# Altium footprint library PcbLib.PcbLib: 27 footprints (part 1 of 2)
Each footprint in its own frame and in the unit in brackets; x right, y up, seen from the top. Pads: shape width x height; smd on the part's side, far side on the other; paste and mask are expansions set on the pad; w line width, h text height; cw(c..) or ccw(c..) is an arc to the next point about the centre after c.
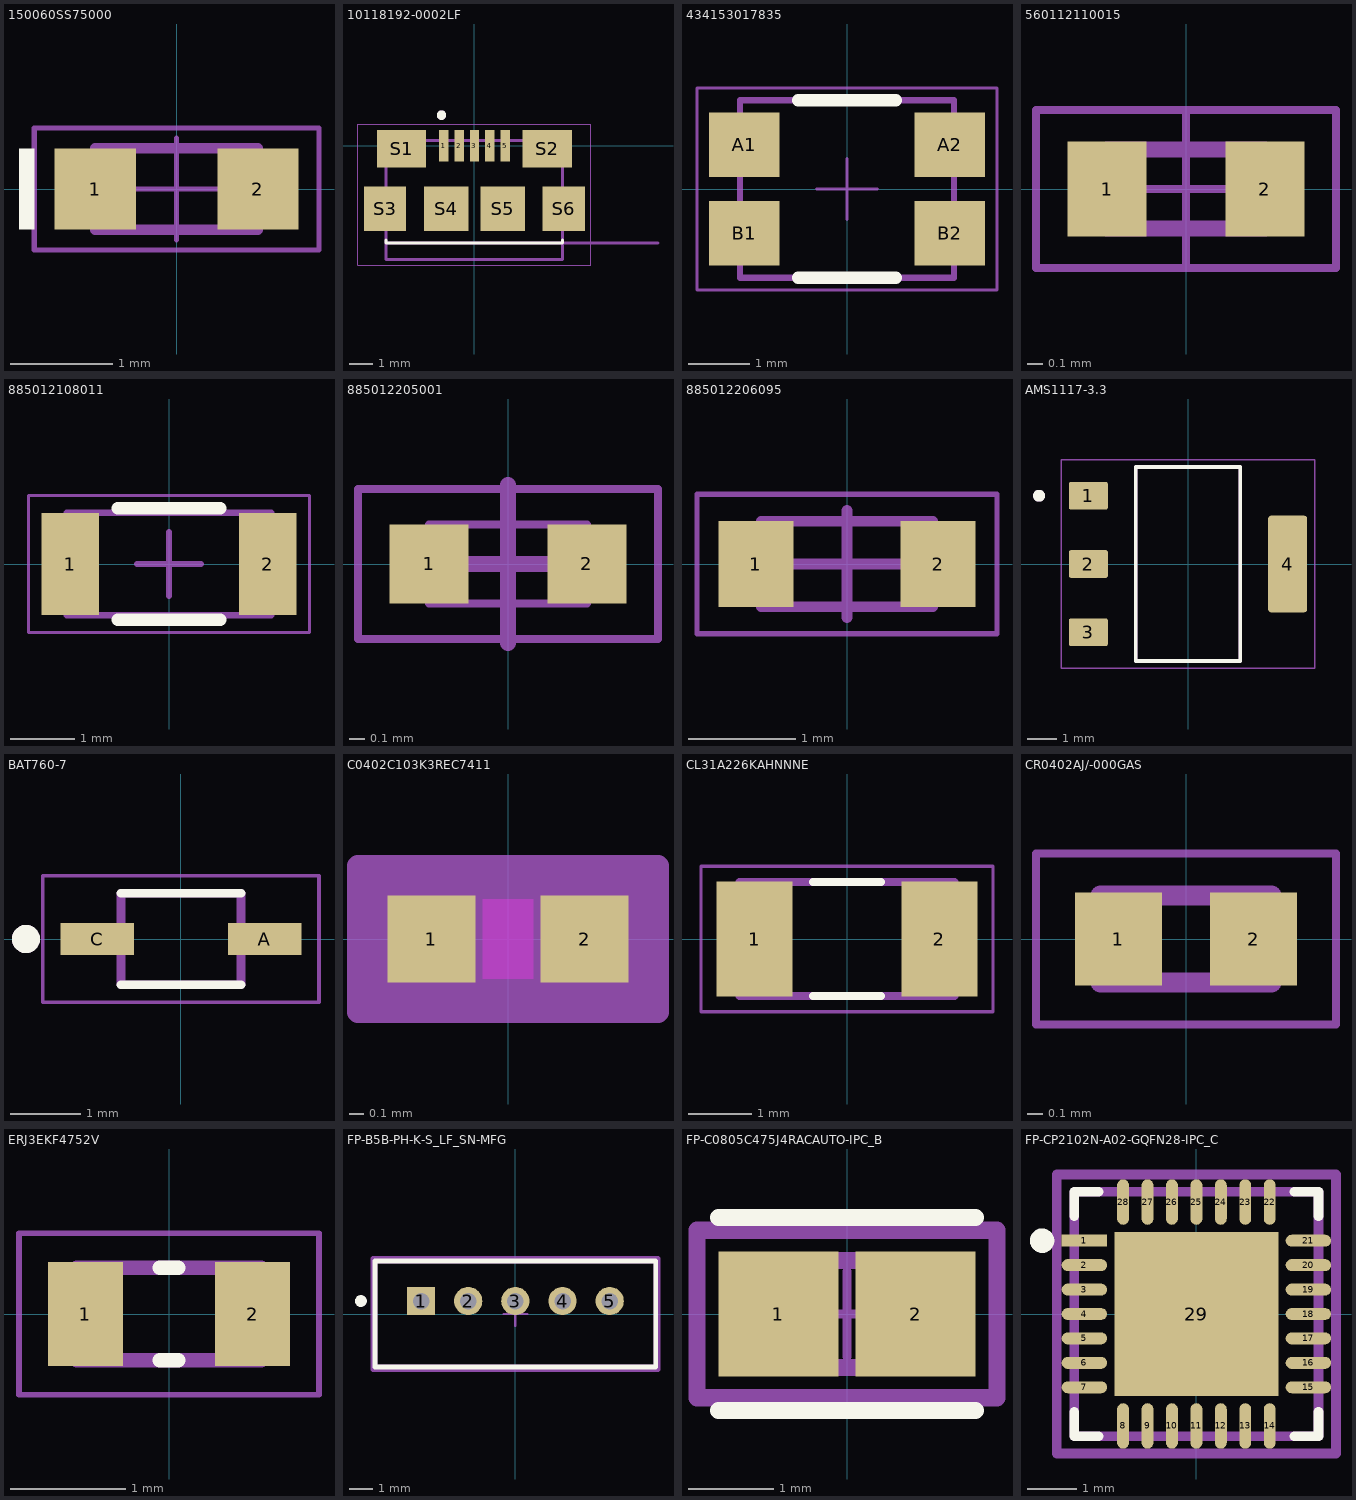
[diagram p0: the footprints below, top view; thin cyan lines are the x and y axes]

## 150060SS75000 [mm] "SMD Mono-color Chip LED, body 1.6x0.8mm"
height 0.7
pads (2):
  rect 0.8x0.8 smd: 1(-0.8,0) 2(0.8,0)
Top Overlay:
  rectangle: -1.55,-0.4 -1.4,0.4
Top Component Outline:
  rectangle: -0.8,-0.4 -0.5,0.4
  lines w0.1: -0.8,-0.4 0.8,-0.4 0.8,0.4 -0.8,0.4 -0.8,-0.4
Top Courtyard:
  lines w0.05: -1.4,-0.6 1.4,-0.6 1.4,0.6 -1.4,0.6 -1.4,-0.6
Top Component Center:
  lines w0.05: -0.5,0 0.5,0 ; 0,-0.5 0,0.5
Top Designator:
  text ".Designator" at -2.499,-0.167 h0.5
3D body "150060xxx.stp": height 0.7, standoff 0, extent -0.8,-0.4 0.8,0.4

## 10118192-0002LF [mm]
height 2.8
pads (11):
  rect 0.4x1.35 smd: 1(-1.3,0) 2(-0.65,0) 3(0,0) 4(0.65,0) 5(1.3,0)
  rect 2.1x1.6 smd: S1(-3.1,-0.125) S2(3.1,-0.125)
  rect 1.8x1.9 smd: S3(-3.8,-2.675) S6(3.8,-2.675)
  rect 1.9x1.9 smd: S4(-1.2,-2.675) S5(1.2,-2.675)
Top Overlay:
  circle w0.2: c-1.4,1.3 r0.1
  lines w0.127: -3.75,-4 -3.75,-4.125 3.75,-4.125 3.75,-4
Top 3D Body:
  circle w0.2: c-1.4,1.3 r0.1
  lines w0.127: 7.8,-4.125 3.75,-4.125 ; -3.75,-4.125 -3.75,-4.825 3.75,-4.825 3.75,-4.125 ; -3.75,-4.125 -3.75,0.225 3.75,0.225 3.75,-4.125 ; -3.75,-4.125 3.75,-4.125
  text "PCB Edge" at 5.1,-3.8 h0.41
Top Courtyard:
  lines w0.05: -4.95,-5.075 4.95,-5.075 4.95,0.925 -4.95,0.925 -4.95,-5.075
3D body "step_temp.STEP": height 2.7, standoff 0, extent -3.95,-4.825 3.95,0.275

## 434153017835 [mm] "Tact Switch, SMD, body 3.5x2.9mm"
height 1.7
pads (4):
  rect 1.15x1.05 smd: A1(-1.675,0.725) A2(1.675,0.725) B1(-1.675,-0.725) B2(1.675,-0.725)
Top Overlay:
  lines w0.2: -0.8,-1.45 0.8,-1.45 ; -0.8,1.45 0.8,1.45
Top Component Outline:
  lines w0.1: -1.75,-1.45 1.75,-1.45 1.75,1.45 -1.75,1.45 -1.75,-1.45
Top Courtyard:
  lines w0.05: -2.45,-1.65 2.45,-1.65 2.45,1.65 -2.45,1.65 -2.45,-1.65
Top Component Center:
  lines w0.05: -0.5,0 0.5,0 ; 0,-0.5 0,0.5
Top Designator:
  text ".Designator" at -4.998,-0.333 h1
3D body "434153017835.stp": height 1.7, standoff 0, extent -2.147,-1.45 2.147,1.45

## 560112110015 [mm] "Fixed Thick Film, body 1.00 x 0.50 mm"
height 0.35
pads (2):
  rect 0.5x0.6 smd: 1(-0.5,0) 2(0.5,0)
Top Component Outline:
  lines w0.1: -0.5,-0.25 -0.5,0.25 0.5,0.25 0.5,-0.25 -0.5,-0.25
Top Courtyard:
  lines w0.05: -0.95,-0.5 -0.95,0.5 0.95,0.5 0.95,-0.5 -0.95,-0.5
Top Component Center:
  lines w0.05: -0.5,0 0.5,0 ; 0,-0.5 0,0.5
Top Designator:
  text ".Designator" at -2.499,-0.167 h0.5
3D body "WRIS-RSKS_0402.stp": height 0.35, standoff 0, extent -0.5,-0.25 0.5,0.25

## 885012108011 [mm] "Ceramic Capacitors, body 3.2x1.6mm"
height 1.35
pads (2):
  rect 0.9x1.6 smd: 1(-1.55,0) 2(1.55,0)
Top Overlay:
  lines w0.2: -0.8,-0.875 0.8,-0.875 ; -0.8,0.875 0.8,0.875
Top Assembly:
  lines w0.1: -1.6,-0.8 1.6,-0.8 1.6,0.8 -1.6,0.8 -1.6,-0.8
Top Courtyard:
  lines w0.05: -2.2,-1.075 -2.2,1.075 2.2,1.075 2.2,-1.075 -2.2,-1.075
Top Component Center:
  lines w0.1: -0.5,0 0.5,0 ; 0,-0.5 0,0.5
Top Designator:
  text ".Designator" at -3.647,-0.357 h1
3D body "CAPC3216X12N.step": height 1.25, standoff 0, extent -1.6,-0.8 1.6,0.8

## 885012205001 [mm] "Ceramic Capacitors, body 1x0.5mm"
height 0.5
pads (2):
  rect 0.5x0.5 smd: 1(-0.5,0) 2(0.5,0)
Top Assembly:
  lines w0.05: -0.5,-0.25 -0.5,0.25 0.5,0.25 0.5,-0.25 -0.5,-0.25
Top Courtyard:
  lines w0.05: -0.95,-0.475 -0.95,0.475 0.95,0.475 0.95,-0.475 -0.95,-0.475
Top Component Center:
  lines w0.1: -0.5,0 0.5,0 ; 0,-0.5 0,0.5
Top Designator:
  text ".Designator" at -3.647,-0.357 h1
3D body "CAPC1005X05N.step": height 0.5, standoff 0, extent -0.5,-0.25 0.5,0.25

## 885012206095 [mm] "Ceramic Capacitors, 0603, body 1.6x0.8mm"
height 0.8
pads (2):
  rect 0.7x0.8 smd: 1(-0.85,0) 2(0.85,0)
Top Assembly:
  lines w0.1: -0.8,-0.4 0.8,-0.4 0.8,0.4 -0.8,0.4 -0.8,-0.4
Top Courtyard:
  lines w0.05: -1.4,-0.65 1.4,-0.65 1.4,0.65 -1.4,0.65 -1.4,-0.65
Top Component Center:
  lines w0.1: -0.5,0 0.5,0 ; 0,-0.5 0,0.5
Top Designator:
  text ".Designator" at -3.647,-0.357 h1
3D body "CAPC1608X08N.step": height 0.8, standoff 0, extent -0.8,-0.4 0.8,0.4

## AMS1117-3.3 [mm]
height 1.8
pads (4):
  rrect15% 1.31x0.93 smd: 1(-3.345,2.29) 2(-3.345,0) 3(-3.345,-2.29)
  rrect15% 1.31x3.24 smd: 4(3.345,0)
Top Overlay:
  circle w0.2: c-5,2.29 r0.1
  lines w0.127: -1.753,-3.253 1.753,-3.253 1.753,3.253 -1.753,3.253 -1.753,-3.253
Top 3D Body:
  circle w0.2: c-5,2.29 r0.1
  lines w0.127: -1.753,-3.253 1.753,-3.253 1.753,3.253 -1.753,3.253 -1.753,-3.253
Top Courtyard:
  lines w0.05: -4.25,-3.502 -4.25,3.502 4.25,3.502 4.25,-3.502 -4.25,-3.502
3D body "step_temp.STEP": height 1.8, standoff 0, extent -3.499,-3.251 3.499,3.251

## BAT760-7 [mm]
pads (2):
  rect 1.04x0.46 smd: A(1.19,0) C(-1.19,0)
Top Overlay:
  circle w0.2: c-2.2,0 r0.1
  lines w0.127: -0.85,-0.65 0.85,-0.65 ; -0.85,0.65 0.85,0.65
Top 3D Body:
  circle w0.2: c-2.2,0 r0.1
  lines w0.127: -0.85,-0.65 0.85,-0.65 0.85,0.65 -0.85,0.65 -0.85,-0.65
Top Courtyard:
  lines w0.05: -1.96,-0.9 1.96,-0.9 1.96,0.9 -1.96,0.9 -1.96,-0.9

## C0402C103K3REC7411 [mm]
pads (2):
  rect 0.605x0.601 smd paste+0 mask+0: 1(-0.527,0) 2(0.527,0)
Top Layer keep-out:
  region: -0.174,-0.224 -0.174,0.224 0.174,0.224 0.174,-0.224
Keep-Out Layer:
  region: -0.174,-0.275 -0.174,0.275 0.174,0.275 0.174,-0.275
Top 3D Body:
  lines w0.025: -0.525,-0.275 -0.525,0.275 ; -0.525,-0.275 -0.275,-0.275 -0.275,0.275 -0.525,0.275 ; -0.525,-0.275 0.525,-0.275 ; -0.525,-0.275 -0.525,0.275 ; -0.525,0.275 0.525,0.275 ; 0.525,-0.275 0.275,-0.275 0.275,0.275 0.525,0.275 ; 0.525,-0.275 0.525,0.275 ; 0.525,-0.275 0.525,0.275
Top Courtyard:
  region: 1.033,-0.504 -1.033,-0.504 -1.033,0.504 1.033,0.504
  lines w0.152: -1.033,-0.504 -1.033,0.504 1.033,0.504 1.033,-0.504 -1.033,-0.504
3D body "CAPC10555_55N_KEM.step": height 0.55, standoff 0, extent -0.525,-0.275 0.525,0.275

## CL31A226KAHNNNE [mm]
pads (2):
  rect 1.2x1.82 smd: 1(-1.46,0) 2(1.46,0)
Top Overlay:
  lines w0.127: -0.54,-0.9 0.54,-0.9 ; -0.54,0.9 0.54,0.9
Top 3D Body:
  lines w0.127: -1.7,-0.9 -1.7,0.9 1.7,0.9 1.7,-0.9 -1.7,-0.9
Top Courtyard:
  lines w0.05: -2.308,-1.15 -2.308,1.15 2.308,1.15 2.308,-1.15 -2.308,-1.15

## CR0402AJ/-000GAS [mm]
pads (2):
  rect 0.56x0.6 smd: 1(-0.435,0) 2(0.435,0)
Top 3D Body:
  lines w0.127: -0.55,-0.28 0.55,-0.28 0.55,0.28 -0.55,0.28 -0.55,-0.28
Top Courtyard:
  lines w0.05: -0.965,-0.55 0.965,-0.55 0.965,0.55 -0.965,0.55 -0.965,-0.55
3D body "step_temp.STEP": height 0.37, standoff 0, extent -0.5,-0.25 0.5,0.25

## ERJ3EKF4752V [mm]
pads (2):
  rect 0.65x0.9 smd: 1(-0.725,0) 2(0.725,0)
Top Overlay:
  lines w0.127: -0.08,-0.4 0.08,-0.4 ; -0.08,0.4 0.08,0.4
Top 3D Body:
  lines w0.127: -0.8,-0.4 -0.8,0.4 0.8,0.4 0.8,-0.4 -0.8,-0.4
Top Courtyard:
  lines w0.05: -1.3,-0.7 -1.3,0.7 1.3,0.7 1.3,-0.7 -1.3,-0.7

## FP-B5B-PH-K-S_LF_SN-MFG [mm]
pads (5):
  rect 1.2x1.2 hole 0.7 paste-2539.97 mask+0: 1(-4,0.55)
  round 1.2 hole 0.7 paste-2539.97 mask+0: 2(-2,0.55) 3(0,0.55) 4(2,0.55) 5(4,0.55)
Top Overlay:
  circle w0.25: c-6.55,0.55 r0.125
  lines w0.2: -5.95,-2.25 -5.95,2.25 5.95,2.25 5.95,-2.25 -5.95,-2.25
Top Assembly:
  lines w0.2: -6.05,-2.35 -6.05,2.35 6.05,2.35 6.05,-2.35 -6.05,-2.35
  text ".Designator" at 0,0.188 h1
Top 3D Body:
  lines w0.2: -5.95,-2.25 -5.95,2.25 5.95,2.25 5.95,-2.25 -5.95,-2.25
Top Courtyard:
  lines w0.2: -6.05,-2.35 -6.05,2.35 6.05,2.35 6.05,-2.35 -6.05,-2.35
Top Component Center:
  lines w0.1: -0.5,0 0.5,0 ; 0,-0.5 0,0.5
3D body "Conn_JST_B5B-PH-K-S_LF_SN_eec.STEP": height 0.25, standoff 0, extent -6.05,-2.35 6.05,2.35

## FP-C0805C475J4RACAUTO-IPC_B [mm]
pads (2):
  rect 1.403x1.456 smd paste+0 mask+0: 1(-0.8,0) 2(0.8,0)
Top Overlay:
  lines w0.2: -1.502,-1.128 1.502,-1.128 ; -1.502,1.128 1.502,1.128
Top Assembly:
  lines w0.2: -1.752,-0.978 1.752,-0.978 1.752,0.978 -1.752,0.978 -1.752,-0.978
  text ".Designator" at 0,0.188 h1
Top 3D Body:
  lines w0.2: -1,-0.625 1,-0.625 1,0.625 -1,0.625 -1,-0.625
Top Courtyard:
  lines w0.2: -1.752,-0.978 1.752,-0.978 1.752,0.978 -1.752,0.978 -1.752,-0.978
Top Component Center:
  lines w0.1: -0.5,0 0.5,0 ; 0,-0.5 0,0.5
3D body "Cap_KEMET_C0805C475J4RACAUTO_eec.STEP": height 0.25, standoff 0, extent -1.752,-0.978 1.752,0.978

## FP-CP2102N-A02-GQFN28-IPC_C [mm]
pads (29):
  rect 0.931x0.242 smd paste+0 mask+0: 1(-2.291,1.5)
  rrect100% 0.931x0.242 smd paste+0 mask+0: 2(-2.291,1) 3(-2.291,0.5) 4(-2.291,0) 5(-2.291,-0.5) 6(-2.291,-1) 7(-2.291,-1.5) 15(2.291,-1.5) 16(2.291,-1) 17(2.291,-0.5) 18(2.291,0) 19(2.291,0.5) 20(2.291,1) 21(2.291,1.5)
  rrect100% 0.242x0.931 smd paste+0 mask+0: 8(-1.5,-2.291) 9(-1,-2.291) 10(-0.5,-2.291) 11(0,-2.291) 12(0.5,-2.291) 13(1,-2.291) 14(1.5,-2.291) 22(1.5,2.291) 23(1,2.291) 24(0.5,2.291) 25(0,2.291) 26(-0.5,2.291) 27(-1,2.291) 28(-1.5,2.291)
  rect 3.35x3.35 smd paste-1000 mask+0: 29(0,0)
Top Overlay:
  circle w0.25: c-3.156,1.5 r0.125
  lines w0.2: -2.5,-2 -2.5,-2.5 -2,-2.5 ; -2.5,2 -2.5,2.5 -2,2.5 ; 2,-2.5 2.5,-2.5 2.5,-2 ; 2,2.5 2.5,2.5 2.5,2
Top Paste:
  rectangle: -1.059,-1.059 1.059,1.059
Top Assembly:
  lines w0.2: -2.856,-2.856 2.856,-2.856 2.856,2.856 -2.856,2.856 -2.856,-2.856
  text ".Designator" at 0,0.188 h1
Top 3D Body:
  lines w0.2: -2.5,-2.5 2.5,-2.5 2.5,2.5 -2.5,2.5 -2.5,-2.5
Top Courtyard:
  lines w0.2: -2.856,-2.856 2.856,-2.856 2.856,2.856 -2.856,2.856 -2.856,-2.856
Top Component Center:
  lines w0.1: -0.5,0 0.5,0 ; 0,-0.5 0,0.5
3D body "IC_Silicon_Labs_CP2102N-A02-GQFN28_eec.STEP": height 0.25, standoff 0, extent -2.856,-2.856 2.856,2.856